# Altium footprint library 01x03-smd-pad-2.54mm-pitch.PcbLib: 1 footprints
Each footprint in its own frame and in the unit in brackets; x right, y up, seen from the top. Pads: shape width x height; smd on the part's side, far side on the other; paste and mask are expansions set on the pad; w line width, h text height; cw(c..) or ccw(c..) is an arc to the next point about the centre after c.
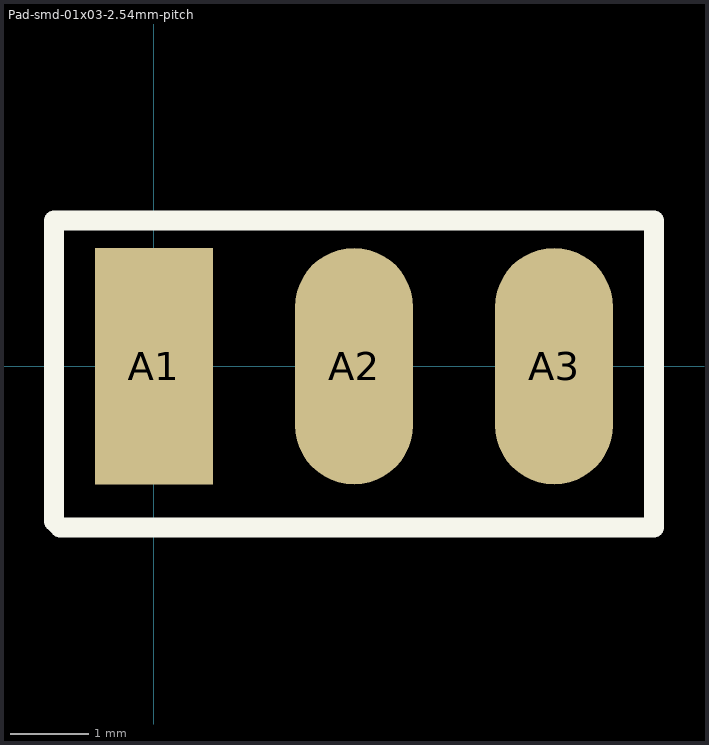
[diagram p0: the footprint, top view; thin cyan lines are the x and y axes]

## Pad-smd-01x03-2.54mm-pitch [mil]
pads (3):
  rect 59x118.11 smd: A1(0,0)
  oval 59x118.11 smd: A2(100,0) A3(200,0)
Top Overlay:
  lines w10: -50,-77.56 -46.85,-80.71 250,-80.71 250,72.83 -46.85,72.83 -50,72.83 -50,-77.56